# Altium schematic symbol library kmilo17pet-LT_OpAmp_LT1000.SchLib: 2280 symbols (part 5 of 79)
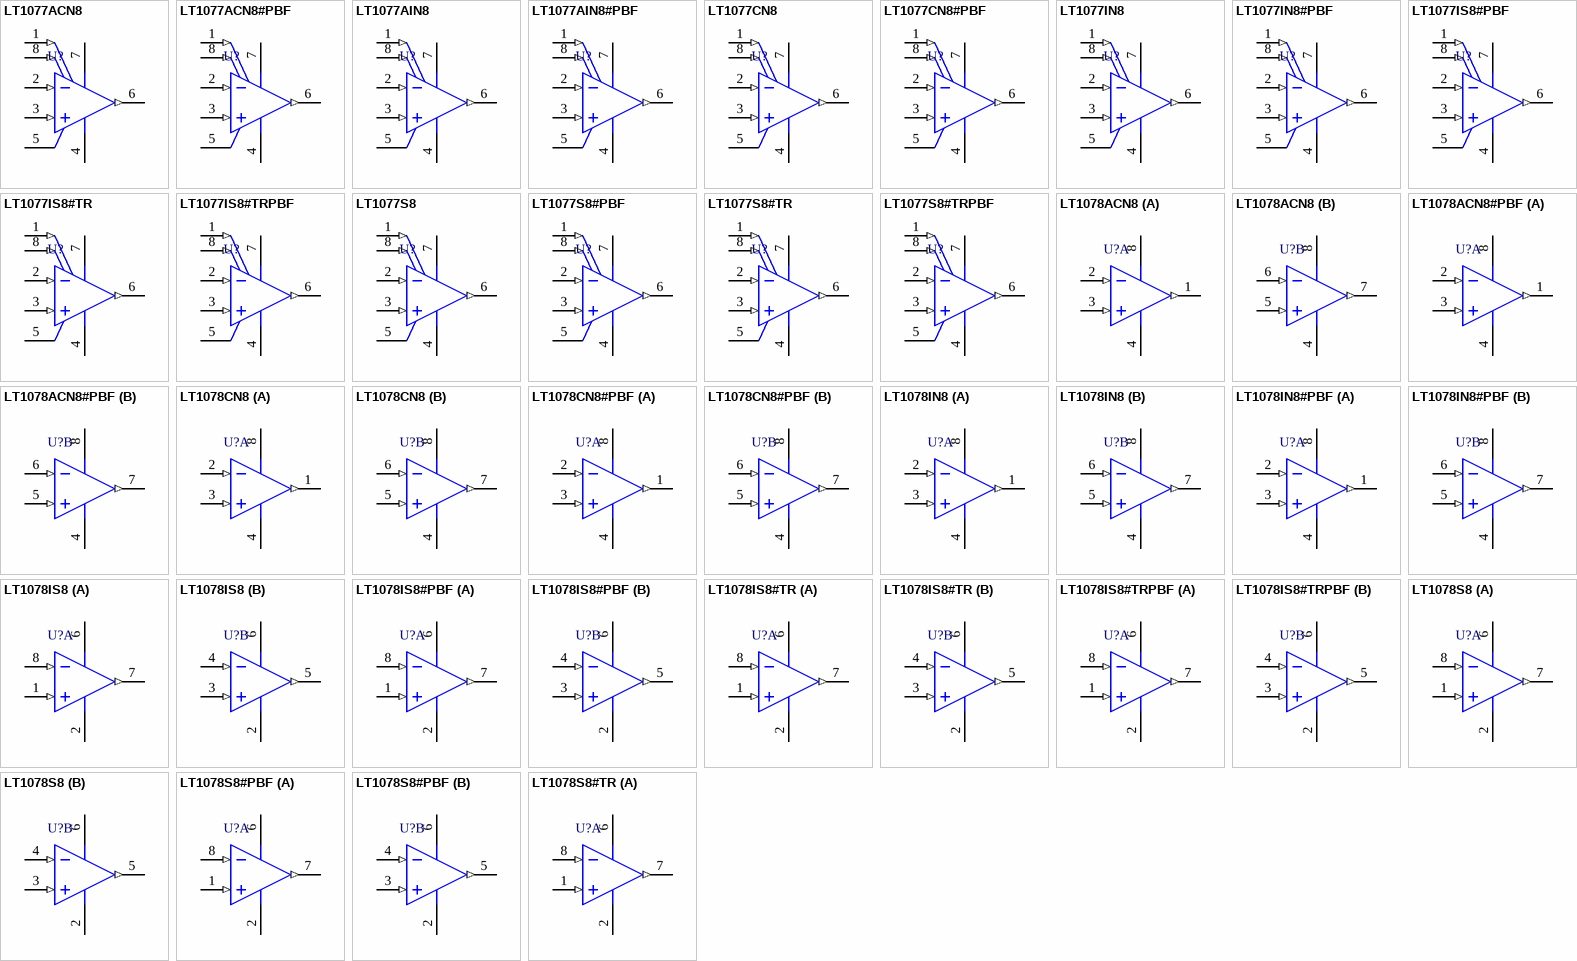
[diagram p109: symbols LT1077ACN8 to LT1078S8#TR]

## LT1077IS8#TR
designator U?
Single Channel, High Precision Single Supply Operational Amplifier, 0.23 MHz Typical GBW, 0.08 V/us Typical SR, 2.2 to 44 V, 8-Pin SOIC (S8-8), Industrial, Reel; Linear Technology Part Number: LT1077; Manufacturer: Linear Technology; PartNumber: LT1077IS8#TR; Channels (#): 1; GBW (MHz) Typical: 0.23; Is (mA) Typical: 0.048; SR (V/us) Typical: 0.08; Vos (mV) Typical: 0.009; Vs Max (V): 44; Vs Min (V): 2.2; DatasheetVersion: Rev. A; PackageVersion: Rev G; PackageReference: LT-S8-8; PackageDescription: 8-Pin Plastic Small Outline, Body 4.9 x 3.9 mm, Pitch 1.27 mm; Supplier 1: Digi-Key; Supplier Part Number 1: LT1077IS8#TR-ND; Packing: Reel; Type: VFB; Mounting Technology: Surface Mount; ComponentLink1Description: Manufacturer URL; ComponentLink1URL: http://www.linear.com/; ComponentLink2Description: Datasheet; ComponentLink2URL: http://cds.linear.com/docs/en/datasheet/1077fa.pdf; ComponentLink3Description: Package Specification; ComponentLink3URL: http://cds.linear.com/docs/en/packaging/05081610_G_SO8.pdf
footprint LT-S8-8_N (SOIC, 8-Leads, Body 4.9x3.9mm, Pitch 1.27mm, IPC Medium Density)
footprint LT-S8-8_L (SOIC, 8-Leads, Body 4.9x3.9mm, Pitch 1.27mm, IPC High Density)
footprint LT-S8-8_M (SOIC, 8-Leads, Body 4.9x3.9mm, Pitch 1.27mm, IPC Low Density)
pins: 1 VOS TRIM (in), 2 -IN (in), 3 +IN (in), 4 V- (power), 5 NC, 6 OUT (out), 7 V+ (power), 8 VOS TRIM (in)

## LT1077IS8#TRPBF
designator U?
Single Channel, High Precision Single Supply Operational Amplifier, 0.23 MHz Typical GBW, 0.08 V/us Typical SR, 2.2 to 44 V, 8-Pin SOIC (S8-8), Industrial, Pb-Free, Reel; Linear Technology Part Number: LT1077; Manufacturer: Linear Technology; PartNumber: LT1077IS8#TRPBF; Channels (#): 1; GBW (MHz) Typical: 0.23; Is (mA) Typical: 0.048; SR (V/us) Typical: 0.08; Vos (mV) Typical: 0.009; Vs Max (V): 44; Vs Min (V): 2.2; DatasheetVersion: Rev. A; PackageVersion: Rev G; PackageReference: LT-S8-8; PackageDescription: 8-Pin Plastic Small Outline, Body 4.9 x 3.9 mm, Pitch 1.27 mm; Supplier 1: Digi-Key; Supplier Part Number 1: LT1077IS8#TRPBF-ND; Supplier 2: Newark; Supplier Part Number 2: 57M1396; Packing: Reel; RoHS: Pb-Free; Type: VFB; Mounting Technology: Surface Mount; ComponentLink1Description: Manufacturer URL; ComponentLink1URL: http://www.linear.com/; ComponentLink2Description: Datasheet; ComponentLink2URL: http://cds.linear.com/docs/en/datasheet/1077fa.pdf; ComponentLink3Description: Package Specification; ComponentLink3URL: http://cds.linear.com/docs/en/packaging/05081610_G_SO8.pdf
footprint LT-S8-8_N (SOIC, 8-Leads, Body 4.9x3.9mm, Pitch 1.27mm, IPC Medium Density)
footprint LT-S8-8_L (SOIC, 8-Leads, Body 4.9x3.9mm, Pitch 1.27mm, IPC High Density)
footprint LT-S8-8_M (SOIC, 8-Leads, Body 4.9x3.9mm, Pitch 1.27mm, IPC Low Density)
pins: 1 VOS TRIM (in), 2 -IN (in), 3 +IN (in), 4 V- (power), 5 NC, 6 OUT (out), 7 V+ (power), 8 VOS TRIM (in)

## LT1077S8
designator U?
Single Channel, High Precision Single Supply Operational Amplifier, 0.23 MHz Typical GBW, 0.08 V/us Typical SR, 2.2 to 44 V, 8-Pin SOIC (S8-8), Commerical; Linear Technology Part Number: LT1077; Manufacturer: Linear Technology; PartNumber: LT1077S8; Channels (#): 1; GBW (MHz) Typical: 0.23; Is (mA) Typical: 0.048; SR (V/us) Typical: 0.08; Vos (mV) Typical: 0.009; Vs Max (V): 44; Vs Min (V): 2.2; DatasheetVersion: Rev. A; PackageVersion: Rev G; PackageReference: LT-S8-8; PackageDescription: 8-Pin Plastic Small Outline, Body 4.9 x 3.9 mm, Pitch 1.27 mm; Supplier 1: Digi-Key; Supplier Part Number 1: LT1077S8-ND; Type: VFB; Mounting Technology: Surface Mount; ComponentLink1Description: Manufacturer URL; ComponentLink1URL: http://www.linear.com/; ComponentLink2Description: Datasheet; ComponentLink2URL: http://cds.linear.com/docs/en/datasheet/1077fa.pdf; ComponentLink3Description: Package Specification; ComponentLink3URL: http://cds.linear.com/docs/en/packaging/05081610_G_SO8.pdf
footprint LT-S8-8_N (SOIC, 8-Leads, Body 4.9x3.9mm, Pitch 1.27mm, IPC Medium Density)
footprint LT-S8-8_L (SOIC, 8-Leads, Body 4.9x3.9mm, Pitch 1.27mm, IPC High Density)
footprint LT-S8-8_M (SOIC, 8-Leads, Body 4.9x3.9mm, Pitch 1.27mm, IPC Low Density)
pins: 1 VOS TRIM (in), 2 -IN (in), 3 +IN (in), 4 V- (power), 5 NC, 6 OUT (out), 7 V+ (power), 8 VOS TRIM (in)

## LT1077S8#PBF
designator U?
Single Channel, High Precision Single Supply Operational Amplifier, 0.23 MHz Typical GBW, 0.08 V/us Typical SR, 2.2 to 44 V, 8-Pin SOIC (S8-8), Commerical, Pb-Free; Linear Technology Part Number: LT1077; Manufacturer: Linear Technology; PartNumber: LT1077S8#PBF; Channels (#): 1; GBW (MHz) Typical: 0.23; Is (mA) Typical: 0.048; SR (V/us) Typical: 0.08; Vos (mV) Typical: 0.009; Vs Max (V): 44; Vs Min (V): 2.2; DatasheetVersion: Rev. A; PackageVersion: Rev G; PackageReference: LT-S8-8; PackageDescription: 8-Pin Plastic Small Outline, Body 4.9 x 3.9 mm, Pitch 1.27 mm; Supplier 1: Digi-Key; Supplier Part Number 1: LT1077S8#PBF-ND; Supplier 2: Farnell; Supplier Part Number 2: 9559671; Supplier 3: Newark; Supplier Part Number 3: 57M1398; RoHS: Pb-Free; Type: VFB; Mounting Technology: Surface Mount; ComponentLink1Description: Manufacturer URL; ComponentLink1URL: http://www.linear.com/; ComponentLink2Description: Datasheet; ComponentLink2URL: http://cds.linear.com/docs/en/datasheet/1077fa.pdf; ComponentLink3Description: Package Specification; ComponentLink3URL: http://cds.linear.com/docs/en/packaging/05081610_G_SO8.pdf
footprint LT-S8-8_N (SOIC, 8-Leads, Body 4.9x3.9mm, Pitch 1.27mm, IPC Medium Density)
footprint LT-S8-8_L (SOIC, 8-Leads, Body 4.9x3.9mm, Pitch 1.27mm, IPC High Density)
footprint LT-S8-8_M (SOIC, 8-Leads, Body 4.9x3.9mm, Pitch 1.27mm, IPC Low Density)
pins: 1 VOS TRIM (in), 2 -IN (in), 3 +IN (in), 4 V- (power), 5 NC, 6 OUT (out), 7 V+ (power), 8 VOS TRIM (in)

## LT1077S8#TR
designator U?
Single Channel, High Precision Single Supply Operational Amplifier, 0.23 MHz Typical GBW, 0.08 V/us Typical SR, 2.2 to 44 V, 8-Pin SOIC (S8-8), Commerical, Reel; Linear Technology Part Number: LT1077; Manufacturer: Linear Technology; PartNumber: LT1077S8#TR; Channels (#): 1; GBW (MHz) Typical: 0.23; Is (mA) Typical: 0.048; SR (V/us) Typical: 0.08; Vos (mV) Typical: 0.009; Vs Max (V): 44; Vs Min (V): 2.2; DatasheetVersion: Rev. A; PackageVersion: Rev G; PackageReference: LT-S8-8; PackageDescription: 8-Pin Plastic Small Outline, Body 4.9 x 3.9 mm, Pitch 1.27 mm; Supplier 1: Digi-Key; Supplier Part Number 1: LT1077S8#TR-ND; Packing: Reel; Type: VFB; Mounting Technology: Surface Mount; ComponentLink1Description: Manufacturer URL; ComponentLink1URL: http://www.linear.com/; ComponentLink2Description: Datasheet; ComponentLink2URL: http://cds.linear.com/docs/en/datasheet/1077fa.pdf; ComponentLink3Description: Package Specification; ComponentLink3URL: http://cds.linear.com/docs/en/packaging/05081610_G_SO8.pdf
footprint LT-S8-8_N (SOIC, 8-Leads, Body 4.9x3.9mm, Pitch 1.27mm, IPC Medium Density)
footprint LT-S8-8_L (SOIC, 8-Leads, Body 4.9x3.9mm, Pitch 1.27mm, IPC High Density)
footprint LT-S8-8_M (SOIC, 8-Leads, Body 4.9x3.9mm, Pitch 1.27mm, IPC Low Density)
pins: 1 VOS TRIM (in), 2 -IN (in), 3 +IN (in), 4 V- (power), 5 NC, 6 OUT (out), 7 V+ (power), 8 VOS TRIM (in)

## LT1077S8#TRPBF
designator U?
Single Channel, High Precision Single Supply Operational Amplifier, 0.23 MHz Typical GBW, 0.08 V/us Typical SR, 2.2 to 44 V, 8-Pin SOIC (S8-8), Commerical, Pb-Free, Reel; Linear Technology Part Number: LT1077; Manufacturer: Linear Technology; PartNumber: LT1077S8#TRPBF; Channels (#): 1; GBW (MHz) Typical: 0.23; Is (mA) Typical: 0.048; SR (V/us) Typical: 0.08; Vos (mV) Typical: 0.009; Vs Max (V): 44; Vs Min (V): 2.2; DatasheetVersion: Rev. A; PackageVersion: Rev G; PackageReference: LT-S8-8; PackageDescription: 8-Pin Plastic Small Outline, Body 4.9 x 3.9 mm, Pitch 1.27 mm; Supplier 1: Digi-Key; Supplier Part Number 1: LT1077S8#TRPBF-ND; Supplier 2: Newark; Supplier Part Number 2: 57M1400; Packing: Reel; RoHS: Pb-Free; Type: VFB; Mounting Technology: Surface Mount; ComponentLink1Description: Manufacturer URL; ComponentLink1URL: http://www.linear.com/; ComponentLink2Description: Datasheet; ComponentLink2URL: http://cds.linear.com/docs/en/datasheet/1077fa.pdf; ComponentLink3Description: Package Specification; ComponentLink3URL: http://cds.linear.com/docs/en/packaging/05081610_G_SO8.pdf
footprint LT-S8-8_N (SOIC, 8-Leads, Body 4.9x3.9mm, Pitch 1.27mm, IPC Medium Density)
footprint LT-S8-8_L (SOIC, 8-Leads, Body 4.9x3.9mm, Pitch 1.27mm, IPC High Density)
footprint LT-S8-8_M (SOIC, 8-Leads, Body 4.9x3.9mm, Pitch 1.27mm, IPC Low Density)
pins: 1 VOS TRIM (in), 2 -IN (in), 3 +IN (in), 4 V- (power), 5 NC, 6 OUT (out), 7 V+ (power), 8 VOS TRIM (in)

## LT1078ACN8
designator U?
Dual Channel, Precision Single Supply Operational Amplifier, 0.2 MHz Typical GBW, 0.07 V/us Typical SR, 2.2 to 44 V, 8-Pin DIP (N8-8), Commerical; Linear Technology Part Number: LT1078; Manufacturer: Linear Technology; PartNumber: LT1078ACN8; Channels (#): 2; GBW (MHz) Typical: 0.2; Is (mA) Typical: 0.038; SR (V/us) Typical: 0.07; Vos (mV) Typical: 0.03; Vs Max (V): 44; Vs Min (V): 2.2; DatasheetVersion: Rev. E; PackageVersion: Rev I; PackageReference: LT-N8-8; PackageDescription: 8-Lead PDIP, Body 10.16 x 6.48 mm, Pitch 2.54 mm; Supplier 1: Digi-Key; Supplier Part Number 1: LT1078ACN8-ND; Type: VFB; Mounting Technology: Surface Mount; ComponentLink1Description: Manufacturer URL; ComponentLink1URL: http://www.linear.com/; ComponentLink2Description: Datasheet; ComponentLink2URL: http://cds.linear.com/docs/en/datasheet/10789fe.pdf; ComponentLink3Description: Package Specification; ComponentLink3URL: http://cds.linear.com/docs/en/packaging/05081510_I_N8.pdf
footprint LT-N8-8 (DIP, 8-Leads, Body 10.16x6.48mm, Pitch 2.54mm)
pins on every part: 4 V- (power), 8 V+ (power)
part A pins: 1 OUTA (out), 2 -INA (in), 3 +INA (in)
part B pins: 5 +INB (in), 6 -INB (in), 7 OUTB (out)

## LT1078ACN8#PBF
designator U?
Dual Channel, Precision Single Supply Operational Amplifier, 0.2 MHz Typical GBW, 0.07 V/us Typical SR, 2.2 to 44 V, 8-Pin DIP (N8-8), Commerical, Pb-Free; Linear Technology Part Number: LT1078; Manufacturer: Linear Technology; PartNumber: LT1078ACN8#PBF; Channels (#): 2; GBW (MHz) Typical: 0.2; Is (mA) Typical: 0.038; SR (V/us) Typical: 0.07; Vos (mV) Typical: 0.03; Vs Max (V): 44; Vs Min (V): 2.2; DatasheetVersion: Rev. E; PackageVersion: Rev I; PackageReference: LT-N8-8; PackageDescription: 8-Lead PDIP, Body 10.16 x 6.48 mm, Pitch 2.54 mm; Supplier 1: Digi-Key; Supplier Part Number 1: LT1078ACN8#PBF-ND; Supplier 2: Farnell; Supplier Part Number 2: 1663346; RoHS: Pb-Free; Type: VFB; Mounting Technology: Through Hole; ComponentLink1Description: Manufacturer URL; ComponentLink1URL: http://www.linear.com/; ComponentLink2Description: Datasheet; ComponentLink2URL: http://cds.linear.com/docs/en/datasheet/10789fe.pdf; ComponentLink3Description: Package Specification; ComponentLink3URL: http://cds.linear.com/docs/en/packaging/05081510_I_N8.pdf
footprint LT-N8-8 (DIP, 8-Leads, Body 10.16x6.48mm, Pitch 2.54mm)
pins on every part: 4 V- (power), 8 V+ (power)
part A pins: 1 OUTA (out), 2 -INA (in), 3 +INA (in)
part B pins: 5 +INB (in), 6 -INB (in), 7 OUTB (out)

## LT1078CN8
designator U?
Dual Channel, Precision Single Supply Operational Amplifier, 0.2 MHz Typical GBW, 0.07 V/us Typical SR, 2.2 to 44 V, 8-Pin DIP (N8-8), Commerical; Linear Technology Part Number: LT1078; Manufacturer: Linear Technology; PartNumber: LT1078CN8; Channels (#): 2; GBW (MHz) Typical: 0.2; Is (mA) Typical: 0.038; SR (V/us) Typical: 0.07; Vos (mV) Typical: 0.03; Vs Max (V): 44; Vs Min (V): 2.2; DatasheetVersion: Rev. E; PackageVersion: Rev I; PackageReference: LT-N8-8; PackageDescription: 8-Lead PDIP, Body 10.16 x 6.48 mm, Pitch 2.54 mm; Supplier 1: Digi-Key; Supplier Part Number 1: LT1078CN8-ND; Type: VFB; Mounting Technology: Through Hole; ComponentLink1Description: Manufacturer URL; ComponentLink1URL: http://www.linear.com/; ComponentLink2Description: Datasheet; ComponentLink2URL: http://cds.linear.com/docs/en/datasheet/10789fe.pdf; ComponentLink3Description: Package Specification; ComponentLink3URL: http://cds.linear.com/docs/en/packaging/05081510_I_N8.pdf
footprint LT-N8-8 (DIP, 8-Leads, Body 10.16x6.48mm, Pitch 2.54mm)
pins on every part: 4 V- (power), 8 V+ (power)
part A pins: 1 OUTA (out), 2 -INA (in), 3 +INA (in)
part B pins: 5 +INB (in), 6 -INB (in), 7 OUTB (out)

## LT1078CN8#PBF
designator U?
Dual Channel, Precision Single Supply Operational Amplifier, 0.2 MHz Typical GBW, 0.07 V/us Typical SR, 2.2 to 44 V, 8-Pin DIP (N8-8), Commerical, Pb-Free; Linear Technology Part Number: LT1078; Manufacturer: Linear Technology; PartNumber: LT1078CN8#PBF; Channels (#): 2; GBW (MHz) Typical: 0.2; Is (mA) Typical: 0.038; SR (V/us) Typical: 0.07; Vos (mV) Typical: 0.03; Vs Max (V): 44; Vs Min (V): 2.2; DatasheetVersion: Rev. E; PackageVersion: Rev I; PackageReference: LT-N8-8; PackageDescription: 8-Lead PDIP, Body 10.16 x 6.48 mm, Pitch 2.54 mm; Supplier 1: Digi-Key; Supplier Part Number 1: LT1078CN8#PBF-ND; Supplier 2: Farnell; Supplier Part Number 2: 9559680; Supplier 3: Newark; Supplier Part Number 3: 57M1404; RoHS: Pb-Free; Type: VFB; Mounting Technology: Through Hole; ComponentLink1Description: Manufacturer URL; ComponentLink1URL: http://www.linear.com/; ComponentLink2Description: Datasheet; ComponentLink2URL: http://cds.linear.com/docs/en/datasheet/10789fe.pdf; ComponentLink3Description: Package Specification; ComponentLink3URL: http://cds.linear.com/docs/en/packaging/05081510_I_N8.pdf
footprint LT-N8-8 (DIP, 8-Leads, Body 10.16x6.48mm, Pitch 2.54mm)
pins on every part: 4 V- (power), 8 V+ (power)
part A pins: 1 OUTA (out), 2 -INA (in), 3 +INA (in)
part B pins: 5 +INB (in), 6 -INB (in), 7 OUTB (out)

## LT1078IN8
designator U?
Dual Channel, Precision Single Supply Operational Amplifier, 0.2 MHz Typical GBW, 0.07 V/us Typical SR, 2.2 to 44 V, 8-Pin DIP (N8-8), Industrial; Linear Technology Part Number: LT1078; Manufacturer: Linear Technology; PartNumber: LT1078IN8; Channels (#): 2; GBW (MHz) Typical: 0.2; Is (mA) Typical: 0.038; SR (V/us) Typical: 0.07; Vos (mV) Typical: 0.03; Vs Max (V): 44; Vs Min (V): 2.2; DatasheetVersion: Rev. E; PackageVersion: Rev I; PackageReference: LT-N8-8; PackageDescription: 8-Lead PDIP, Body 10.16 x 6.48 mm, Pitch 2.54 mm; Supplier 1: Digi-Key; Supplier Part Number 1: LT1078IN8-ND; Type: VFB; Mounting Technology: Through Hole; ComponentLink1Description: Manufacturer URL; ComponentLink1URL: http://www.linear.com/; ComponentLink2Description: Datasheet; ComponentLink2URL: http://cds.linear.com/docs/en/datasheet/10789fe.pdf; ComponentLink3Description: Package Specification; ComponentLink3URL: http://cds.linear.com/docs/en/packaging/05081510_I_N8.pdf
footprint LT-N8-8 (DIP, 8-Leads, Body 10.16x6.48mm, Pitch 2.54mm)
pins on every part: 4 V- (power), 8 V+ (power)
part A pins: 1 OUTA (out), 2 -INA (in), 3 +INA (in)
part B pins: 5 +INB (in), 6 -INB (in), 7 OUTB (out)

## LT1078IN8#PBF
designator U?
Dual Channel, Precision Single Supply Operational Amplifier, 0.2 MHz Typical GBW, 0.07 V/us Typical SR, 2.2 to 44 V, 8-Pin DIP (N8-8), Industrial, Pb-Free; Linear Technology Part Number: LT1078; Manufacturer: Linear Technology; PartNumber: LT1078IN8#PBF; Channels (#): 2; GBW (MHz) Typical: 0.2; Is (mA) Typical: 0.038; SR (V/us) Typical: 0.07; Vos (mV) Typical: 0.03; Vs Max (V): 44; Vs Min (V): 2.2; DatasheetVersion: Rev. E; PackageVersion: Rev I; PackageReference: LT-N8-8; PackageDescription: 8-Lead PDIP, Body 10.16 x 6.48 mm, Pitch 2.54 mm; Supplier 1: Digi-Key; Supplier Part Number 1: LT1078IN8#PBF-ND; Supplier 2: Farnell; Supplier Part Number 2: 2211388; Supplier 3: Newark; Supplier Part Number 3: 57M1406; RoHS: Pb-Free; Type: VFB; Mounting Technology: Through Hole; ComponentLink1Description: Manufacturer URL; ComponentLink1URL: http://www.linear.com/; ComponentLink2Description: Datasheet; ComponentLink2URL: http://cds.linear.com/docs/en/datasheet/10789fe.pdf; ComponentLink3Description: Package Specification; ComponentLink3URL: http://cds.linear.com/docs/en/packaging/05081510_I_N8.pdf
footprint LT-N8-8 (DIP, 8-Leads, Body 10.16x6.48mm, Pitch 2.54mm)
pins on every part: 4 V- (power), 8 V+ (power)
part A pins: 1 OUTA (out), 2 -INA (in), 3 +INA (in)
part B pins: 5 +INB (in), 6 -INB (in), 7 OUTB (out)

## LT1078IS8
designator U?
Dual Channel, Precision Single Supply Operational Amplifier, 0.2 MHz Typical GBW, 0.07 V/us Typical SR, 2.2 to 44 V, 8-Pin SOIC (S8-8), Industrial; Linear Technology Part Number: LT1078; Manufacturer: Linear Technology; PartNumber: LT1078IS8; Channels (#): 2; GBW (MHz) Typical: 0.2; Is (mA) Typical: 0.038; SR (V/us) Typical: 0.07; Vos (mV) Typical: 0.03; Vs Max (V): 44; Vs Min (V): 2.2; DatasheetVersion: Rev. E; PackageVersion: Rev G; PackageReference: LT-S8-8; PackageDescription: 8-Pin Plastic Small Outline, Body 4.9 x 3.9 mm, Pitch 1.27 mm; Supplier 1: Digi-Key; Supplier Part Number 1: LT1078IS8-ND; Supplier 2: Newark; Supplier Part Number 2: 57M1411; Type: VFB; Mounting Technology: Surface Mount; ComponentLink1Description: Manufacturer URL; ComponentLink1URL: http://www.linear.com/; ComponentLink2Description: Datasheet; ComponentLink2URL: http://cds.linear.com/docs/en/datasheet/10789fe.pdf; ComponentLink3Description: Package Specification; ComponentLink3URL: http://cds.linear.com/docs/en/packaging/05081610_G_SO8.pdf
footprint LT-S8-8_N (SOIC, 8-Leads, Body 4.9x3.9mm, Pitch 1.27mm, IPC Medium Density)
footprint LT-S8-8_L (SOIC, 8-Leads, Body 4.9x3.9mm, Pitch 1.27mm, IPC High Density)
footprint LT-S8-8_M (SOIC, 8-Leads, Body 4.9x3.9mm, Pitch 1.27mm, IPC Low Density)
pins on every part: 2 V- (power), 6 V+ (power)
part A pins: 1 +IN A (in), 7 OUT A (out), 8 -IN A (in)
part B pins: 3 +IN B (in), 4 -IN B (in), 5 OUT B (out)

## LT1078IS8#PBF
designator U?
Dual Channel, Precision Single Supply Operational Amplifier, 0.2 MHz Typical GBW, 0.07 V/us Typical SR, 2.2 to 44 V, 8-Pin SOIC (S8-8), Industrial, Pb-Free; Linear Technology Part Number: LT1078; Manufacturer: Linear Technology; PartNumber: LT1078IS8#PBF; Channels (#): 2; GBW (MHz) Typical: 0.2; Is (mA) Typical: 0.038; SR (V/us) Typical: 0.07; Vos (mV) Typical: 0.03; Vs Max (V): 44; Vs Min (V): 2.2; DatasheetVersion: Rev. E; PackageVersion: Rev G; PackageReference: LT-S8-8; PackageDescription: 8-Pin Plastic Small Outline, Body 4.9 x 3.9 mm, Pitch 1.27 mm; Supplier 1: Digi-Key; Supplier Part Number 1: LT1078IS8#PBF-ND; Supplier 2: Farnell; Supplier Part Number 2: 2115801; Supplier 3: Newark; Supplier Part Number 3: 57M1412; RoHS: Pb-Free; Type: VFB; Mounting Technology: Surface Mount; ComponentLink1Description: Manufacturer URL; ComponentLink1URL: http://www.linear.com/; ComponentLink2Description: Datasheet; ComponentLink2URL: http://cds.linear.com/docs/en/datasheet/10789fe.pdf; ComponentLink3Description: Package Specification; ComponentLink3URL: http://cds.linear.com/docs/en/packaging/05081610_G_SO8.pdf
footprint LT-S8-8_N (SOIC, 8-Leads, Body 4.9x3.9mm, Pitch 1.27mm, IPC Medium Density)
footprint LT-S8-8_L (SOIC, 8-Leads, Body 4.9x3.9mm, Pitch 1.27mm, IPC High Density)
footprint LT-S8-8_M (SOIC, 8-Leads, Body 4.9x3.9mm, Pitch 1.27mm, IPC Low Density)
pins on every part: 2 V- (power), 6 V+ (power)
part A pins: 1 +IN A (in), 7 OUT A (out), 8 -IN A (in)
part B pins: 3 +IN B (in), 4 -IN B (in), 5 OUT B (out)

## LT1078IS8#TR
designator U?
Dual Channel, Precision Single Supply Operational Amplifier, 0.2 MHz Typical GBW, 0.07 V/us Typical SR, 2.2 to 44 V, 8-Pin SOIC (S8-8), Industrial, Reel; Linear Technology Part Number: LT1078; Manufacturer: Linear Technology; PartNumber: LT1078IS8#TR; Channels (#): 2; GBW (MHz) Typical: 0.2; Is (mA) Typical: 0.038; SR (V/us) Typical: 0.07; Vos (mV) Typical: 0.03; Vs Max (V): 44; Vs Min (V): 2.2; DatasheetVersion: Rev. E; PackageVersion: Rev G; PackageReference: LT-S8-8; PackageDescription: 8-Pin Plastic Small Outline, Body 4.9 x 3.9 mm, Pitch 1.27 mm; Supplier 1: Digi-Key; Supplier Part Number 1: LT1078IS8#TR-ND; Supplier 2: Newark; Supplier Part Number 2: 57M1413; Packing: Reel; Type: VFB; Mounting Technology: Surface Mount; ComponentLink1Description: Manufacturer URL; ComponentLink1URL: http://www.linear.com/; ComponentLink2Description: Datasheet; ComponentLink2URL: http://cds.linear.com/docs/en/datasheet/10789fe.pdf; ComponentLink3Description: Package Specification; ComponentLink3URL: http://cds.linear.com/docs/en/packaging/05081610_G_SO8.pdf
footprint LT-S8-8_N (SOIC, 8-Leads, Body 4.9x3.9mm, Pitch 1.27mm, IPC Medium Density)
footprint LT-S8-8_L (SOIC, 8-Leads, Body 4.9x3.9mm, Pitch 1.27mm, IPC High Density)
footprint LT-S8-8_M (SOIC, 8-Leads, Body 4.9x3.9mm, Pitch 1.27mm, IPC Low Density)
pins on every part: 2 V- (power), 6 V+ (power)
part A pins: 1 +IN A (in), 7 OUT A (out), 8 -IN A (in)
part B pins: 3 +IN B (in), 4 -IN B (in), 5 OUT B (out)

## LT1078IS8#TRPBF
designator U?
Dual Channel, Precision Single Supply Operational Amplifier, 0.2 MHz Typical GBW, 0.07 V/us Typical SR, 2.2 to 44 V, 8-Pin SOIC (S8-8), Industrial, Pb-Free, Reel; Linear Technology Part Number: LT1078; Manufacturer: Linear Technology; PartNumber: LT1078IS8#TRPBF; Channels (#): 2; GBW (MHz) Typical: 0.2; Is (mA) Typical: 0.038; SR (V/us) Typical: 0.07; Vos (mV) Typical: 0.03; Vs Max (V): 44; Vs Min (V): 2.2; DatasheetVersion: Rev. E; PackageVersion: Rev G; PackageReference: LT-S8-8; PackageDescription: 8-Pin Plastic Small Outline, Body 4.9 x 3.9 mm, Pitch 1.27 mm; Supplier 1: Digi-Key; Supplier Part Number 1: LT1078IS8#TRPBF-ND; Supplier 2: Newark; Supplier Part Number 2: 57M1414; Packing: Reel; RoHS: Pb-Free; Type: VFB; Mounting Technology: Surface Mount; ComponentLink1Description: Manufacturer URL; ComponentLink1URL: http://www.linear.com/; ComponentLink2Description: Datasheet; ComponentLink2URL: http://cds.linear.com/docs/en/datasheet/10789fe.pdf; ComponentLink3Description: Package Specification; ComponentLink3URL: http://cds.linear.com/docs/en/packaging/05081610_G_SO8.pdf
footprint LT-S8-8_N (SOIC, 8-Leads, Body 4.9x3.9mm, Pitch 1.27mm, IPC Medium Density)
footprint LT-S8-8_L (SOIC, 8-Leads, Body 4.9x3.9mm, Pitch 1.27mm, IPC High Density)
footprint LT-S8-8_M (SOIC, 8-Leads, Body 4.9x3.9mm, Pitch 1.27mm, IPC Low Density)
pins on every part: 2 V- (power), 6 V+ (power)
part A pins: 1 +IN A (in), 7 OUT A (out), 8 -IN A (in)
part B pins: 3 +IN B (in), 4 -IN B (in), 5 OUT B (out)

## LT1078S8
designator U?
Dual Channel, Precision Single Supply Operational Amplifier, 0.2 MHz Typical GBW, 0.07 V/us Typical SR, 2.2 to 44 V, 8-Pin SOIC (S8-8), Commerical; Linear Technology Part Number: LT1078; Manufacturer: Linear Technology; PartNumber: LT1078S8; Channels (#): 2; GBW (MHz) Typical: 0.2; Is (mA) Typical: 0.038; SR (V/us) Typical: 0.07; Vos (mV) Typical: 0.03; Vs Max (V): 44; Vs Min (V): 2.2; DatasheetVersion: Rev. E; PackageVersion: Rev G; PackageReference: LT-S8-8; PackageDescription: 8-Pin Plastic Small Outline, Body 4.9 x 3.9 mm, Pitch 1.27 mm; Supplier 1: Digi-Key; Supplier Part Number 1: LT1078S8-ND; Supplier 2: Newark; Supplier Part Number 2: 57M1419; Type: VFB; Mounting Technology: Surface Mount; ComponentLink1Description: Manufacturer URL; ComponentLink1URL: http://www.linear.com/; ComponentLink2Description: Datasheet; ComponentLink2URL: http://cds.linear.com/docs/en/datasheet/10789fe.pdf; ComponentLink3Description: Package Specification; ComponentLink3URL: http://cds.linear.com/docs/en/packaging/05081610_G_SO8.pdf
footprint LT-S8-8_N (SOIC, 8-Leads, Body 4.9x3.9mm, Pitch 1.27mm, IPC Medium Density)
footprint LT-S8-8_L (SOIC, 8-Leads, Body 4.9x3.9mm, Pitch 1.27mm, IPC High Density)
footprint LT-S8-8_M (SOIC, 8-Leads, Body 4.9x3.9mm, Pitch 1.27mm, IPC Low Density)
pins on every part: 2 V- (power), 6 V+ (power)
part A pins: 1 +IN A (in), 7 OUT A (out), 8 -IN A (in)
part B pins: 3 +IN B (in), 4 -IN B (in), 5 OUT B (out)

## LT1078S8#PBF
designator U?
Dual Channel, Precision Single Supply Operational Amplifier, 0.2 MHz Typical GBW, 0.07 V/us Typical SR, 2.2 to 44 V, 8-Pin SOIC (S8-8), Commerical, Pb-Free; Linear Technology Part Number: LT1078; Manufacturer: Linear Technology; PartNumber: LT1078S8#PBF; Channels (#): 2; GBW (MHz) Typical: 0.2; Is (mA) Typical: 0.038; SR (V/us) Typical: 0.07; Vos (mV) Typical: 0.03; Vs Max (V): 44; Vs Min (V): 2.2; DatasheetVersion: Rev. E; PackageVersion: Rev G; PackageReference: LT-S8-8; PackageDescription: 8-Pin Plastic Small Outline, Body 4.9 x 3.9 mm, Pitch 1.27 mm; Supplier 1: Digi-Key; Supplier Part Number 1: LT1078S8#PBF-ND; Supplier 2: Farnell; Supplier Part Number 2: 9559698; Supplier 3: Newark; Supplier Part Number 3: 57M1420; RoHS: Pb-Free; Type: VFB; Mounting Technology: Surface Mount; ComponentLink1Description: Manufacturer URL; ComponentLink1URL: http://www.linear.com/; ComponentLink2Description: Datasheet; ComponentLink2URL: http://cds.linear.com/docs/en/datasheet/10789fe.pdf; ComponentLink3Description: Package Specification; ComponentLink3URL: http://cds.linear.com/docs/en/packaging/05081610_G_SO8.pdf
footprint LT-S8-8_N (SOIC, 8-Leads, Body 4.9x3.9mm, Pitch 1.27mm, IPC Medium Density)
footprint LT-S8-8_L (SOIC, 8-Leads, Body 4.9x3.9mm, Pitch 1.27mm, IPC High Density)
footprint LT-S8-8_M (SOIC, 8-Leads, Body 4.9x3.9mm, Pitch 1.27mm, IPC Low Density)
pins on every part: 2 V- (power), 6 V+ (power)
part A pins: 1 +IN A (in), 7 OUT A (out), 8 -IN A (in)
part B pins: 3 +IN B (in), 4 -IN B (in), 5 OUT B (out)

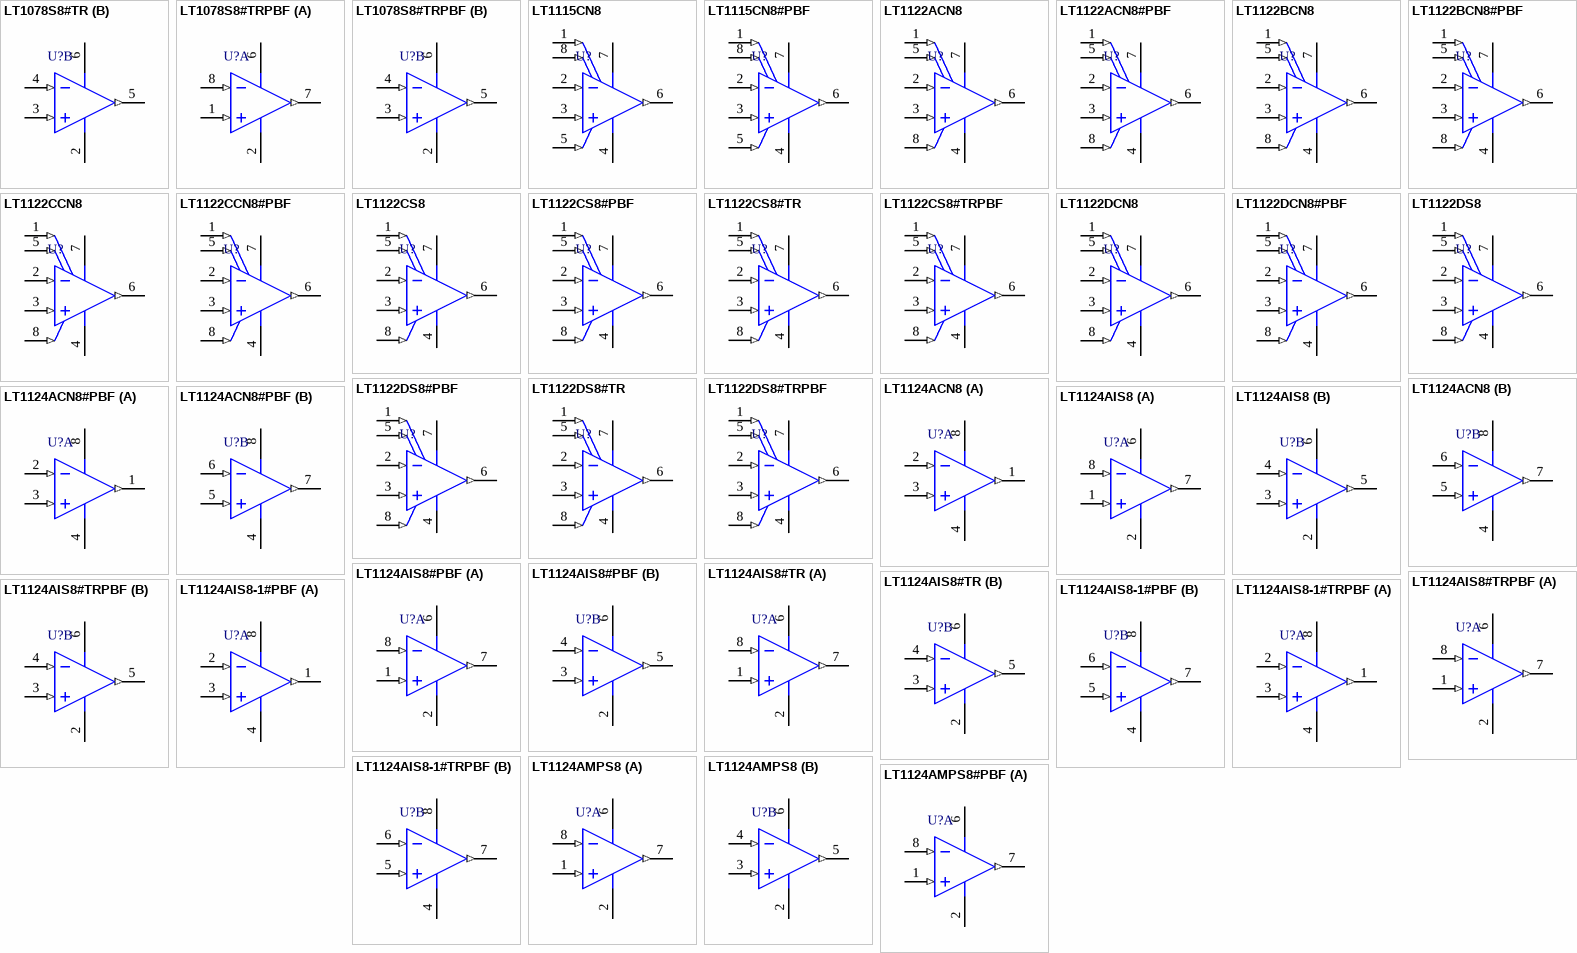
[diagram p6: symbols LT1078S8#TR to LT1124AMPS8#PBF]

## LT1078S8#TR
designator U?
Dual Channel, Precision Single Supply Operational Amplifier, 0.2 MHz Typical GBW, 0.07 V/us Typical SR, 2.2 to 44 V, 8-Pin SOIC (S8-8), Commerical, Reel; Linear Technology Part Number: LT1078; Manufacturer: Linear Technology; PartNumber: LT1078S8#TR; Channels (#): 2; GBW (MHz) Typical: 0.2; Is (mA) Typical: 0.038; SR (V/us) Typical: 0.07; Vos (mV) Typical: 0.03; Vs Max (V): 44; Vs Min (V): 2.2; DatasheetVersion: Rev. E; PackageVersion: Rev G; PackageReference: LT-S8-8; PackageDescription: 8-Pin Plastic Small Outline, Body 4.9 x 3.9 mm, Pitch 1.27 mm; Supplier 1: Digi-Key; Supplier Part Number 1: LT1078S8#TR-ND; Packing: Reel; Type: VFB; Mounting Technology: Surface Mount; ComponentLink1Description: Manufacturer URL; ComponentLink1URL: http://www.linear.com/; ComponentLink2Description: Datasheet; ComponentLink2URL: http://cds.linear.com/docs/en/datasheet/10789fe.pdf; ComponentLink3Description: Package Specification; ComponentLink3URL: http://cds.linear.com/docs/en/packaging/05081610_G_SO8.pdf
footprint LT-S8-8_N (SOIC, 8-Leads, Body 4.9x3.9mm, Pitch 1.27mm, IPC Medium Density)
footprint LT-S8-8_L (SOIC, 8-Leads, Body 4.9x3.9mm, Pitch 1.27mm, IPC High Density)
footprint LT-S8-8_M (SOIC, 8-Leads, Body 4.9x3.9mm, Pitch 1.27mm, IPC Low Density)
pins on every part: 2 V- (power), 6 V+ (power)
part A pins: 1 +IN A (in), 7 OUT A (out), 8 -IN A (in)
part B pins: 3 +IN B (in), 4 -IN B (in), 5 OUT B (out)

## LT1078S8#TRPBF
designator U?
Dual Channel, Precision Single Supply Operational Amplifier, 0.2 MHz Typical GBW, 0.07 V/us Typical SR, 2.2 to 44 V, 8-Pin SOIC (S8-8), Commerical, Pb-Free, Reel; Linear Technology Part Number: LT1078; Manufacturer: Linear Technology; PartNumber: LT1078S8#TRPBF; Channels (#): 2; GBW (MHz) Typical: 0.2; Is (mA) Typical: 0.038; SR (V/us) Typical: 0.07; Vos (mV) Typical: 0.03; Vs Max (V): 44; Vs Min (V): 2.2; DatasheetVersion: Rev. E; PackageVersion: Rev G; PackageReference: LT-S8-8; PackageDescription: 8-Pin Plastic Small Outline, Body 4.9 x 3.9 mm, Pitch 1.27 mm; Supplier 1: Digi-Key; Supplier Part Number 1: LT1078S8#TRPBF-ND; Supplier 2: Newark; Supplier Part Number 2: 57M1422; Packing: Reel; RoHS: Pb-Free; Type: VFB; Mounting Technology: Surface Mount; ComponentLink1Description: Manufacturer URL; ComponentLink1URL: http://www.linear.com/; ComponentLink2Description: Datasheet; ComponentLink2URL: http://cds.linear.com/docs/en/datasheet/10789fe.pdf; ComponentLink3Description: Package Specification; ComponentLink3URL: http://cds.linear.com/docs/en/packaging/05081610_G_SO8.pdf
footprint LT-S8-8_N (SOIC, 8-Leads, Body 4.9x3.9mm, Pitch 1.27mm, IPC Medium Density)
footprint LT-S8-8_L (SOIC, 8-Leads, Body 4.9x3.9mm, Pitch 1.27mm, IPC High Density)
footprint LT-S8-8_M (SOIC, 8-Leads, Body 4.9x3.9mm, Pitch 1.27mm, IPC Low Density)
pins on every part: 2 V- (power), 6 V+ (power)
part A pins: 1 +IN A (in), 7 OUT A (out), 8 -IN A (in)
part B pins: 3 +IN B (in), 4 -IN B (in), 5 OUT B (out)

## LT1115CN8
designator U?
Single Channel, Low Noise, Ultra Low Distortion Operational Amplifier, 70 MHz Typical GBW, 15 V/us Typical SR, 8 to 44 V, 8-Pin DIP (N8-8), Commercial; Linear Technology Part Number: LT1115; Manufacturer: Linear Technology; PartNumber: LT1115CN8; Channels (#): 1; GBW (MHz) Typical: 70; Is (mA) Typical: 8.5; SR (V/us) Typical: 15; Vos (mV) Typical: 0.05; Vs Max (V): 44; Vs Min (V): 8; DatasheetVersion: Rev. A; PackageVersion: Rev I; PackageReference: LT-N8-8; PackageDescription: 8-Lead PDIP, Body 10.16 x 6.48 mm, Pitch 2.54 mm; Type: VFB; Mounting Technology: Through Hole; ComponentLink1Description: Manufacturer URL; ComponentLink1URL: http://www.linear.com/; ComponentLink2Description: Datasheet; ComponentLink2URL: http://cds.linear.com/docs/en/datasheet/lt1115fa.pdf; ComponentLink3Description: Package Specification; ComponentLink3URL: http://cds.linear.com/docs/en/packaging/05081510_I_N8.pdf
footprint LT-N8-8 (DIP, 8-Leads, Body 10.16x6.48mm, Pitch 2.54mm)
pins: 1 VOS TRIM (in), 2 -IN (in), 3 +IN (in), 4 V- (power), 5 OVER-COMP (in), 6 OUT (out), 7 V+ (power), 8 VOS TRIM (in)

## LT1115CN8#PBF
designator U?
Single Channel, Low Noise, Ultra Low Distortion Operational Amplifier, 70 MHz Typical GBW, 15 V/us Typical SR, 8 to 44 V, 8-Pin DIP (N8-8), Commercial, Pb-Free; Linear Technology Part Number: LT1115; Manufacturer: Linear Technology; PartNumber: LT1115CN8#PBF; Channels (#): 1; GBW (MHz) Typical: 70; Is (mA) Typical: 8.5; SR (V/us) Typical: 15; Vos (mV) Typical: 0.05; Vs Max (V): 44; Vs Min (V): 8; DatasheetVersion: Rev. A; PackageVersion: Rev I; PackageReference: LT-N8-8; PackageDescription: 8-Lead PDIP, Body 10.16 x 6.48 mm, Pitch 2.54 mm; Supplier 1: Digi-Key; Supplier Part Number 1: LT1115CN8#PBF-ND; Supplier 2: Farnell; Supplier Part Number 2: 1556436; Supplier 3: Newark; Supplier Part Number 3: 57M1765; RoHS: Pb-Free; Type: VFB; Mounting Technology: Surface Mount; ComponentLink1Description: Manufacturer URL; ComponentLink1URL: http://www.linear.com/; ComponentLink2Description: Datasheet; ComponentLink2URL: http://cds.linear.com/docs/en/datasheet/lt1115fa.pdf; ComponentLink3Description: Package Specification; ComponentLink3URL: http://cds.linear.com/docs/en/packaging/05081510_I_N8.pdf
footprint LT-N8-8 (DIP, 8-Leads, Body 10.16x6.48mm, Pitch 2.54mm)
pins: 1 VOS TRIM (in), 2 -IN (in), 3 +IN (in), 4 V- (power), 5 OVER-COMP (in), 6 OUT (out), 7 V+ (power), 8 VOS TRIM (in)

## LT1122ACN8
designator U?
Single Channel, Setting guaranteed to 0.01%, FET input Operational Amplifier, 14 MHz Typical GBW, 80 V/us Typical SR, 20 to 40 V, 8-Pin DIP (N8-8), Commerical; Linear Technology Part Number: LT1122; Manufacturer: Linear Technology; PartNumber: LT1122ACN8; Channels (#): 1; GBW (MHz) Typical: 14; Is (mA) Typical: 7.5; SR (V/us) Typical: 80; Vos (mV) Typical: 0.12; Vs Max (V): 40; Vs Min (V): 20; PackageVersion: Rev I; PackageReference: LT-N8-8; PackageDescription: 8-Lead PDIP, Body 10.16 x 6.48 mm, Pitch 2.54 mm; Supplier 1: Digi-Key; Supplier Part Number 1: LT1122ACN8-ND; Type: JFET; Mounting Technology: Surface Mount; ComponentLink1Description: Manufacturer URL; ComponentLink1URL: http://www.linear.com/; ComponentLink2Description: Datasheet; ComponentLink2URL: http://cds.linear.com/docs/en/datasheet/lt1122.pdf; ComponentLink3Description: Package Specification; ComponentLink3URL: http://cds.linear.com/docs/en/packaging/05081510_I_N8.pdf
footprint LT-N8-8 (DIP, 8-Leads, Body 10.16x6.48mm, Pitch 2.54mm)
pins: 1 VOS TRIM (in), 2 -IN (in), 3 +IN (in), 4 V- (power), 5 VOS TRIM (in), 6 OUT (out), 7 V+ (power), 8 SPEED BOOST/OVERCOMP (in)

## LT1122ACN8#PBF
designator U?
Single Channel, Setting guaranteed to 0.01%, FET input Operational Amplifier, 14 MHz Typical GBW, 80 V/us Typical SR, 20 to 40 V, 8-Pin DIP (N8-8), Commerical, Pb-Free; Linear Technology Part Number: LT1122; Manufacturer: Linear Technology; PartNumber: LT1122ACN8#PBF; Channels (#): 1; GBW (MHz) Typical: 14; Is (mA) Typical: 7.5; SR (V/us) Typical: 80; Vos (mV) Typical: 0.12; Vs Max (V): 40; Vs Min (V): 20; PackageVersion: Rev I; PackageReference: LT-N8-8; PackageDescription: 8-Lead PDIP, Body 10.16 x 6.48 mm, Pitch 2.54 mm; Supplier 1: Digi-Key; Supplier Part Number 1: LT1122ACN8#PBF-ND; RoHS: Pb-Free; Type: JFET; Mounting Technology: Through Hole; ComponentLink1Description: Manufacturer URL; ComponentLink1URL: http://www.linear.com/; ComponentLink2Description: Datasheet; ComponentLink2URL: http://cds.linear.com/docs/en/datasheet/lt1122.pdf; ComponentLink3Description: Package Specification; ComponentLink3URL: http://cds.linear.com/docs/en/packaging/05081510_I_N8.pdf
footprint LT-N8-8 (DIP, 8-Leads, Body 10.16x6.48mm, Pitch 2.54mm)
pins: 1 VOS TRIM (in), 2 -IN (in), 3 +IN (in), 4 V- (power), 5 VOS TRIM (in), 6 OUT (out), 7 V+ (power), 8 SPEED BOOST/OVERCOMP (in)

## LT1122BCN8
designator U?
Single Channel, Setting guaranteed to 0.01%, FET input Operational Amplifier, 14 MHz Typical GBW, 80 V/us Typical SR, 20 to 40 V, 8-Pin DIP (N8-8), Commerical; Linear Technology Part Number: LT1122; Manufacturer: Linear Technology; PartNumber: LT1122BCN8; Channels (#): 1; GBW (MHz) Typical: 14; Is (mA) Typical: 7.5; SR (V/us) Typical: 80; Vos (mV) Typical: 0.12; Vs Max (V): 40; Vs Min (V): 20; PackageVersion: Rev I; PackageReference: LT-N8-8; PackageDescription: 8-Lead PDIP, Body 10.16 x 6.48 mm, Pitch 2.54 mm; Supplier 1: Digi-Key; Supplier Part Number 1: LT1122BCN8-ND; Type: JFET; Mounting Technology: Through Hole; ComponentLink1Description: Manufacturer URL; ComponentLink1URL: http://www.linear.com/; ComponentLink2Description: Datasheet; ComponentLink2URL: http://cds.linear.com/docs/en/datasheet/lt1122.pdf; ComponentLink3Description: Package Specification; ComponentLink3URL: http://cds.linear.com/docs/en/packaging/05081510_I_N8.pdf
footprint LT-N8-8 (DIP, 8-Leads, Body 10.16x6.48mm, Pitch 2.54mm)
pins: 1 VOS TRIM (in), 2 -IN (in), 3 +IN (in), 4 V- (power), 5 VOS TRIM (in), 6 OUT (out), 7 V+ (power), 8 SPEED BOOST/OVERCOMP (in)

## LT1122BCN8#PBF
designator U?
Single Channel, Setting guaranteed to 0.01%, FET input Operational Amplifier, 14 MHz Typical GBW, 80 V/us Typical SR, 20 to 40 V, 8-Pin DIP (N8-8), Commerical, Pb-Free; Linear Technology Part Number: LT1122; Manufacturer: Linear Technology; PartNumber: LT1122BCN8#PBF; Channels (#): 1; GBW (MHz) Typical: 14; Is (mA) Typical: 7.5; SR (V/us) Typical: 80; Vos (mV) Typical: 0.12; Vs Max (V): 40; Vs Min (V): 20; PackageVersion: Rev I; PackageReference: LT-N8-8; PackageDescription: 8-Lead PDIP, Body 10.16 x 6.48 mm, Pitch 2.54 mm; Supplier 1: Digi-Key; Supplier Part Number 1: LT1122BCN8#PBF-ND; RoHS: Pb-Free; Type: JFET; Mounting Technology: Through Hole; ComponentLink1Description: Manufacturer URL; ComponentLink1URL: http://www.linear.com/; ComponentLink2Description: Datasheet; ComponentLink2URL: http://cds.linear.com/docs/en/datasheet/lt1122.pdf; ComponentLink3Description: Package Specification; ComponentLink3URL: http://cds.linear.com/docs/en/packaging/05081510_I_N8.pdf
footprint LT-N8-8 (DIP, 8-Leads, Body 10.16x6.48mm, Pitch 2.54mm)
pins: 1 VOS TRIM (in), 2 -IN (in), 3 +IN (in), 4 V- (power), 5 VOS TRIM (in), 6 OUT (out), 7 V+ (power), 8 SPEED BOOST/OVERCOMP (in)

## LT1122CCN8
designator U?
Single Channel, Setting Guaranteed to 0.01%, FET Input Operational Amplifier, 14 MHz Typical GBW, 80 V/us Typical SR, 20 to 40 V, 8-Pin DIP (N8-8), Commerical; Linear Technology Part Number: LT1122; Manufacturer: Linear Technology; PartNumber: LT1122CCN8; Channels (#): 1; GBW (MHz) Typical: 14; Is (mA) Typical: 7.5; SR (V/us) Typical: 80; Vos (mV) Typical: 0.12; Vs Max (V): 40; Vs Min (V): 20; PackageVersion: Rev I; PackageReference: LT-N8-8; PackageDescription: 8-Lead PDIP, Body 10.16 x 6.48 mm, Pitch 2.54 mm; Supplier 1: Digi-Key; Supplier Part Number 1: LT1122CCN8-ND; Type: JFET; Mounting Technology: Surface Mount; ComponentLink1Description: Manufacturer URL; ComponentLink1URL: http://www.linear.com/; ComponentLink2Description: Datasheet; ComponentLink2URL: http://cds.linear.com/docs/en/datasheet/lt1122.pdf; ComponentLink3Description: Package Specification; ComponentLink3URL: http://cds.linear.com/docs/en/packaging/05081510_I_N8.pdf
footprint LT-N8-8 (DIP, 8-Leads, Body 10.16x6.48mm, Pitch 2.54mm)
pins: 1 VOS TRIM (in), 2 -IN (in), 3 +IN (in), 4 V- (power), 5 VOS TRIM (in), 6 OUT (out), 7 V+ (power), 8 SPEED BOOST/OVERCOMP (in)

## LT1122CCN8#PBF
designator U?
Single Channel, Setting Guaranteed to 0.01%, FET Input Operational Amplifier, 14 MHz Typical GBW, 80 V/us Typical SR, 20 to 40 V, 8-Pin DIP (N8-8), Commerical, Pb-Free; Linear Technology Part Number: LT1122; Manufacturer: Linear Technology; PartNumber: LT1122CCN8#PBF; Channels (#): 1; GBW (MHz) Typical: 14; Is (mA) Typical: 7.5; SR (V/us) Typical: 80; Vos (mV) Typical: 0.12; Vs Max (V): 40; Vs Min (V): 20; PackageVersion: Rev I; PackageReference: LT-N8-8; PackageDescription: 8-Lead PDIP, Body 10.16 x 6.48 mm, Pitch 2.54 mm; Supplier 1: Digi-Key; Supplier Part Number 1: LT1122CCN8#PBF-ND; Supplier 2: Newark; Supplier Part Number 2: 57M1986; RoHS: Pb-Free; Type: JFET; Mounting Technology: Through Hole; ComponentLink1Description: Manufacturer URL; ComponentLink1URL: http://www.linear.com/; ComponentLink2Description: Datasheet; ComponentLink2URL: http://cds.linear.com/docs/en/datasheet/lt1122.pdf; ComponentLink3Description: Package Specification; ComponentLink3URL: http://cds.linear.com/docs/en/packaging/05081510_I_N8.pdf
footprint LT-N8-8 (DIP, 8-Leads, Body 10.16x6.48mm, Pitch 2.54mm)
pins: 1 VOS TRIM (in), 2 -IN (in), 3 +IN (in), 4 V- (power), 5 VOS TRIM (in), 6 OUT (out), 7 V+ (power), 8 SPEED BOOST/OVERCOMP (in)

## LT1122CS8
designator U?
Single Channel, Setting guaranteed to 0.01%, FET input Operational Amplifier, 14 MHz Typical GBW, 80 V/us Typical SR, 20 to 40 V, 8-Pin SOIC (S8-8), Commerical; Linear Technology Part Number: LT1122; Manufacturer: Linear Technology; PartNumber: LT1122CS8; Channels (#): 1; GBW (MHz) Typical: 14; Is (mA) Typical: 7.5; SR (V/us) Typical: 80; Vos (mV) Typical: 0.12; Vs Max (V): 40; Vs Min (V): 20; PackageVersion: Rev G; PackageReference: LT-S8-8; PackageDescription: 8-Pin Plastic Small Outline, Body 4.9 x 3.9 mm, Pitch 1.27 mm; Supplier 1: Digi-Key; Supplier Part Number 1: LT1122CS8-ND; Supplier 2: Newark; Supplier Part Number 2: 57M1987; Type: JFET; Mounting Technology: Surface Mount; ComponentLink1Description: Manufacturer URL; ComponentLink1URL: http://www.linear.com/; ComponentLink2Description: Datasheet; ComponentLink2URL: http://cds.linear.com/docs/en/datasheet/lt1122.pdf; ComponentLink3Description: Package Specification; ComponentLink3URL: http://cds.linear.com/docs/en/packaging/05081610_G_SO8.pdf
footprint LT-S8-8_N (SOIC, 8-Leads, Body 4.9x3.9mm, Pitch 1.27mm, IPC Medium Density)
footprint LT-S8-8_L (SOIC, 8-Leads, Body 4.9x3.9mm, Pitch 1.27mm, IPC High Density)
footprint LT-S8-8_M (SOIC, 8-Leads, Body 4.9x3.9mm, Pitch 1.27mm, IPC Low Density)
pins: 1 VOS TRIM (in), 2 -IN (in), 3 +IN (in), 4 V- (power), 5 VOS TRIM (in), 6 OUT (out), 7 V+ (power), 8 SPEED BOOST/OVERCOMP (in)

## LT1122CS8#PBF
designator U?
Single Channel, Setting guaranteed to 0.01%, FET input Operational Amplifier, 14 MHz Typical GBW, 80 V/us Typical SR, 20 to 40 V, 8-Pin SOIC (S8-8), Commerical, Pb-Free; Linear Technology Part Number: LT1122; Manufacturer: Linear Technology; PartNumber: LT1122CS8#PBF; Channels (#): 1; GBW (MHz) Typical: 14; Is (mA) Typical: 7.5; SR (V/us) Typical: 80; Vos (mV) Typical: 0.12; Vs Max (V): 40; Vs Min (V): 20; PackageVersion: Rev G; PackageReference: LT-S8-8; PackageDescription: 8-Pin Plastic Small Outline, Body 4.9 x 3.9 mm, Pitch 1.27 mm; Supplier 1: Digi-Key; Supplier Part Number 1: LT1122CS8#PBF-ND; Supplier 2: Farnell; Supplier Part Number 2: 1330580; Supplier 3: Newark; Supplier Part Number 3: 57M1988; RoHS: Pb-Free; Type: JFET; Mounting Technology: Surface Mount; ComponentLink1Description: Manufacturer URL; ComponentLink1URL: http://www.linear.com/; ComponentLink2Description: Datasheet; ComponentLink2URL: http://cds.linear.com/docs/en/datasheet/lt1122.pdf; ComponentLink3Description: Package Specification; ComponentLink3URL: http://cds.linear.com/docs/en/packaging/05081610_G_SO8.pdf
footprint LT-S8-8_N (SOIC, 8-Leads, Body 4.9x3.9mm, Pitch 1.27mm, IPC Medium Density)
footprint LT-S8-8_L (SOIC, 8-Leads, Body 4.9x3.9mm, Pitch 1.27mm, IPC High Density)
footprint LT-S8-8_M (SOIC, 8-Leads, Body 4.9x3.9mm, Pitch 1.27mm, IPC Low Density)
pins: 1 VOS TRIM (in), 2 -IN (in), 3 +IN (in), 4 V- (power), 5 VOS TRIM (in), 6 OUT (out), 7 V+ (power), 8 SPEED BOOST/OVERCOMP (in)

## LT1122CS8#TR
designator U?
Single Channel, Setting guaranteed to 0.01%, FET input Operational Amplifier, 14 MHz Typical GBW, 80 V/us Typical SR, 20 to 40 V, 8-Pin SOIC (S8-8), Commerical, Reel; Linear Technology Part Number: LT1122; Manufacturer: Linear Technology; PartNumber: LT1122CS8#TR; Channels (#): 1; GBW (MHz) Typical: 14; Is (mA) Typical: 7.5; SR (V/us) Typical: 80; Vos (mV) Typical: 0.12; Vs Max (V): 40; Vs Min (V): 20; PackageVersion: Rev G; PackageReference: LT-S8-8; PackageDescription: 8-Pin Plastic Small Outline, Body 4.9 x 3.9 mm, Pitch 1.27 mm; Supplier 1: Digi-Key; Supplier Part Number 1: LT1122CS8#TR-ND; Supplier 2: Newark; Supplier Part Number 2: 57M1989; Packing: Reel; Type: JFET; Mounting Technology: Surface Mount; ComponentLink1Description: Manufacturer URL; ComponentLink1URL: http://www.linear.com/; ComponentLink2Description: Datasheet; ComponentLink2URL: http://cds.linear.com/docs/en/datasheet/lt1122.pdf; ComponentLink3Description: Package Specification; ComponentLink3URL: http://cds.linear.com/docs/en/packaging/05081610_G_SO8.pdf
footprint LT-S8-8_N (SOIC, 8-Leads, Body 4.9x3.9mm, Pitch 1.27mm, IPC Medium Density)
footprint LT-S8-8_L (SOIC, 8-Leads, Body 4.9x3.9mm, Pitch 1.27mm, IPC High Density)
footprint LT-S8-8_M (SOIC, 8-Leads, Body 4.9x3.9mm, Pitch 1.27mm, IPC Low Density)
pins: 1 VOS TRIM (in), 2 -IN (in), 3 +IN (in), 4 V- (power), 5 VOS TRIM (in), 6 OUT (out), 7 V+ (power), 8 SPEED BOOST/OVERCOMP (in)

## LT1122CS8#TRPBF
designator U?
Single Channel, Setting guaranteed to 0.01%, FET input Operational Amplifier, 14 MHz Typical GBW, 80 V/us Typical SR, 20 to 40 V, 8-Pin SOIC (S8-8), Commerical, Pb-Free, Reel; Linear Technology Part Number: LT1122; Manufacturer: Linear Technology; PartNumber: LT1122CS8#TRPBF; Channels (#): 1; GBW (MHz) Typical: 14; Is (mA) Typical: 7.5; SR (V/us) Typical: 80; Vos (mV) Typical: 0.12; Vs Max (V): 40; Vs Min (V): 20; PackageVersion: Rev G; PackageReference: LT-S8-8; PackageDescription: 8-Pin Plastic Small Outline, Body 4.9 x 3.9 mm, Pitch 1.27 mm; Supplier 1: Digi-Key; Supplier Part Number 1: LT1122CS8#TRPBF-ND; Packing: Reel; RoHS: Pb-Free; Type: JFET; Mounting Technology: Surface Mount; ComponentLink1Description: Manufacturer URL; ComponentLink1URL: http://www.linear.com/; ComponentLink2Description: Datasheet; ComponentLink2URL: http://cds.linear.com/docs/en/datasheet/lt1122.pdf; ComponentLink3Description: Package Specification; ComponentLink3URL: http://cds.linear.com/docs/en/packaging/05081610_G_SO8.pdf
footprint LT-S8-8_N (SOIC, 8-Leads, Body 4.9x3.9mm, Pitch 1.27mm, IPC Medium Density)
footprint LT-S8-8_L (SOIC, 8-Leads, Body 4.9x3.9mm, Pitch 1.27mm, IPC High Density)
footprint LT-S8-8_M (SOIC, 8-Leads, Body 4.9x3.9mm, Pitch 1.27mm, IPC Low Density)
pins: 1 VOS TRIM (in), 2 -IN (in), 3 +IN (in), 4 V- (power), 5 VOS TRIM (in), 6 OUT (out), 7 V+ (power), 8 SPEED BOOST/OVERCOMP (in)

## LT1122DCN8
designator U?
Single Channel, Setting Guaranteed to 0.01%, FET Input Operational Amplifier, 14 MHz Typical GBW, 80 V/us Typical SR, 20 to 40 V, 8-Pin DIP (N8-8), Commerical; Linear Technology Part Number: LT1122; Manufacturer: Linear Technology; PartNumber: LT1122DCN8; Channels (#): 1; GBW (MHz) Typical: 14; Is (mA) Typical: 7.5; SR (V/us) Typical: 80; Vos (mV) Typical: 0.12; Vs Max (V): 40; Vs Min (V): 20; PackageVersion: Rev I; PackageReference: LT-N8-8; PackageDescription: 8-Lead PDIP, Body 10.16 x 6.48 mm, Pitch 2.54 mm; Supplier 1: Digi-Key; Supplier Part Number 1: LT1122DCN8-ND; Type: JFET; Mounting Technology: Surface Mount; ComponentLink1Description: Manufacturer URL; ComponentLink1URL: http://www.linear.com/; ComponentLink2Description: Datasheet; ComponentLink2URL: http://cds.linear.com/docs/en/datasheet/lt1122.pdf; ComponentLink3Description: Package Specification; ComponentLink3URL: http://cds.linear.com/docs/en/packaging/05081510_I_N8.pdf
footprint LT-N8-8 (DIP, 8-Leads, Body 10.16x6.48mm, Pitch 2.54mm)
pins: 1 VOS TRIM (in), 2 -IN (in), 3 +IN (in), 4 V- (power), 5 VOS TRIM (in), 6 OUT (out), 7 V+ (power), 8 SPEED BOOST/OVERCOMP (in)

## LT1122DCN8#PBF
designator U?
Single Channel, Setting Guaranteed to 0.01%, FET Input Operational Amplifier, 14 MHz Typical GBW, 80 V/us Typical SR, 20 to 40 V, 8-Pin DIP (N8-8), Commerical, Pb-Free; Linear Technology Part Number: LT1122; Manufacturer: Linear Technology; PartNumber: LT1122DCN8#PBF; Channels (#): 1; GBW (MHz) Typical: 14; Is (mA) Typical: 7.5; SR (V/us) Typical: 80; Vos (mV) Typical: 0.12; Vs Max (V): 40; Vs Min (V): 20; PackageVersion: Rev I; PackageReference: LT-N8-8; PackageDescription: 8-Lead PDIP, Body 10.16 x 6.48 mm, Pitch 2.54 mm; Supplier 1: Digi-Key; Supplier Part Number 1: LT1122DCN8#PBF-ND; RoHS: Pb-Free; Type: JFET; Mounting Technology: Surface Mount; ComponentLink1Description: Manufacturer URL; ComponentLink1URL: http://www.linear.com/; ComponentLink2Description: Datasheet; ComponentLink2URL: http://cds.linear.com/docs/en/datasheet/lt1122.pdf; ComponentLink3Description: Package Specification; ComponentLink3URL: http://cds.linear.com/docs/en/packaging/05081510_I_N8.pdf
footprint LT-N8-8 (DIP, 8-Leads, Body 10.16x6.48mm, Pitch 2.54mm)
pins: 1 VOS TRIM (in), 2 -IN (in), 3 +IN (in), 4 V- (power), 5 VOS TRIM (in), 6 OUT (out), 7 V+ (power), 8 SPEED BOOST/OVERCOMP (in)

## LT1122DS8
designator U?
Single Channel, Setting guaranteed to 0.01%, FET input Operational Amplifier, 14 MHz Typical GBW, 80 V/us Typical SR, 20 to 40 V, 8-Pin SOIC (S8-8), Commerical; Linear Technology Part Number: LT1122; Manufacturer: Linear Technology; PartNumber: LT1122DS8; Channels (#): 1; GBW (MHz) Typical: 14; Is (mA) Typical: 7.5; SR (V/us) Typical: 80; Vos (mV) Typical: 0.12; Vs Max (V): 40; Vs Min (V): 20; PackageVersion: Rev G; PackageReference: LT-S8-8; PackageDescription: 8-Pin Plastic Small Outline, Body 4.9 x 3.9 mm, Pitch 1.27 mm; Supplier 1: Digi-Key; Supplier Part Number 1: LT1122DS8-ND; Supplier 2: Newark; Supplier Part Number 2: 57M1993; Type: JFET; Mounting Technology: Surface Mount; ComponentLink1Description: Manufacturer URL; ComponentLink1URL: http://www.linear.com/; ComponentLink2Description: Datasheet; ComponentLink2URL: http://cds.linear.com/docs/en/datasheet/lt1122.pdf; ComponentLink3Description: Package Specification; ComponentLink3URL: http://cds.linear.com/docs/en/packaging/05081610_G_SO8.pdf
footprint LT-S8-8_N (SOIC, 8-Leads, Body 4.9x3.9mm, Pitch 1.27mm, IPC Medium Density)
footprint LT-S8-8_L (SOIC, 8-Leads, Body 4.9x3.9mm, Pitch 1.27mm, IPC High Density)
footprint LT-S8-8_M (SOIC, 8-Leads, Body 4.9x3.9mm, Pitch 1.27mm, IPC Low Density)
pins: 1 VOS TRIM (in), 2 -IN (in), 3 +IN (in), 4 V- (power), 5 VOS TRIM (in), 6 OUT (out), 7 V+ (power), 8 SPEED BOOST/OVERCOMP (in)

## LT1122DS8#PBF
designator U?
Single Channel, Setting guaranteed to 0.01%, FET input Operational Amplifier, 14 MHz Typical GBW, 80 V/us Typical SR, 20 to 40 V, 8-Pin SOIC (S8-8), Commerical, Pb-Free; Linear Technology Part Number: LT1122; Manufacturer: Linear Technology; PartNumber: LT1122DS8#PBF; Channels (#): 1; GBW (MHz) Typical: 14; Is (mA) Typical: 7.5; SR (V/us) Typical: 80; Vos (mV) Typical: 0.12; Vs Max (V): 40; Vs Min (V): 20; PackageVersion: Rev G; PackageReference: LT-S8-8; PackageDescription: 8-Pin Plastic Small Outline, Body 4.9 x 3.9 mm, Pitch 1.27 mm; Supplier 1: Digi-Key; Supplier Part Number 1: LT1122DS8#PBF-ND; Supplier 2: Farnell; Supplier Part Number 2: 2294674; Supplier 3: Newark; Supplier Part Number 3: 57M1994; RoHS: Pb-Free; Type: JFET; Mounting Technology: Surface Mount; ComponentLink1Description: Manufacturer URL; ComponentLink1URL: http://www.linear.com/; ComponentLink2Description: Datasheet; ComponentLink2URL: http://cds.linear.com/docs/en/datasheet/lt1122.pdf; ComponentLink3Description: Package Specification; ComponentLink3URL: http://cds.linear.com/docs/en/packaging/05081610_G_SO8.pdf
footprint LT-S8-8_N (SOIC, 8-Leads, Body 4.9x3.9mm, Pitch 1.27mm, IPC Medium Density)
footprint LT-S8-8_L (SOIC, 8-Leads, Body 4.9x3.9mm, Pitch 1.27mm, IPC High Density)
footprint LT-S8-8_M (SOIC, 8-Leads, Body 4.9x3.9mm, Pitch 1.27mm, IPC Low Density)
pins: 1 VOS TRIM (in), 2 -IN (in), 3 +IN (in), 4 V- (power), 5 VOS TRIM (in), 6 OUT (out), 7 V+ (power), 8 SPEED BOOST/OVERCOMP (in)